# Altium schematic symbol library Schematic_IC_Micro_Controller.SchLib: 7 symbols
Pins are listed as number, name and electrical type; pins without a type are passive.

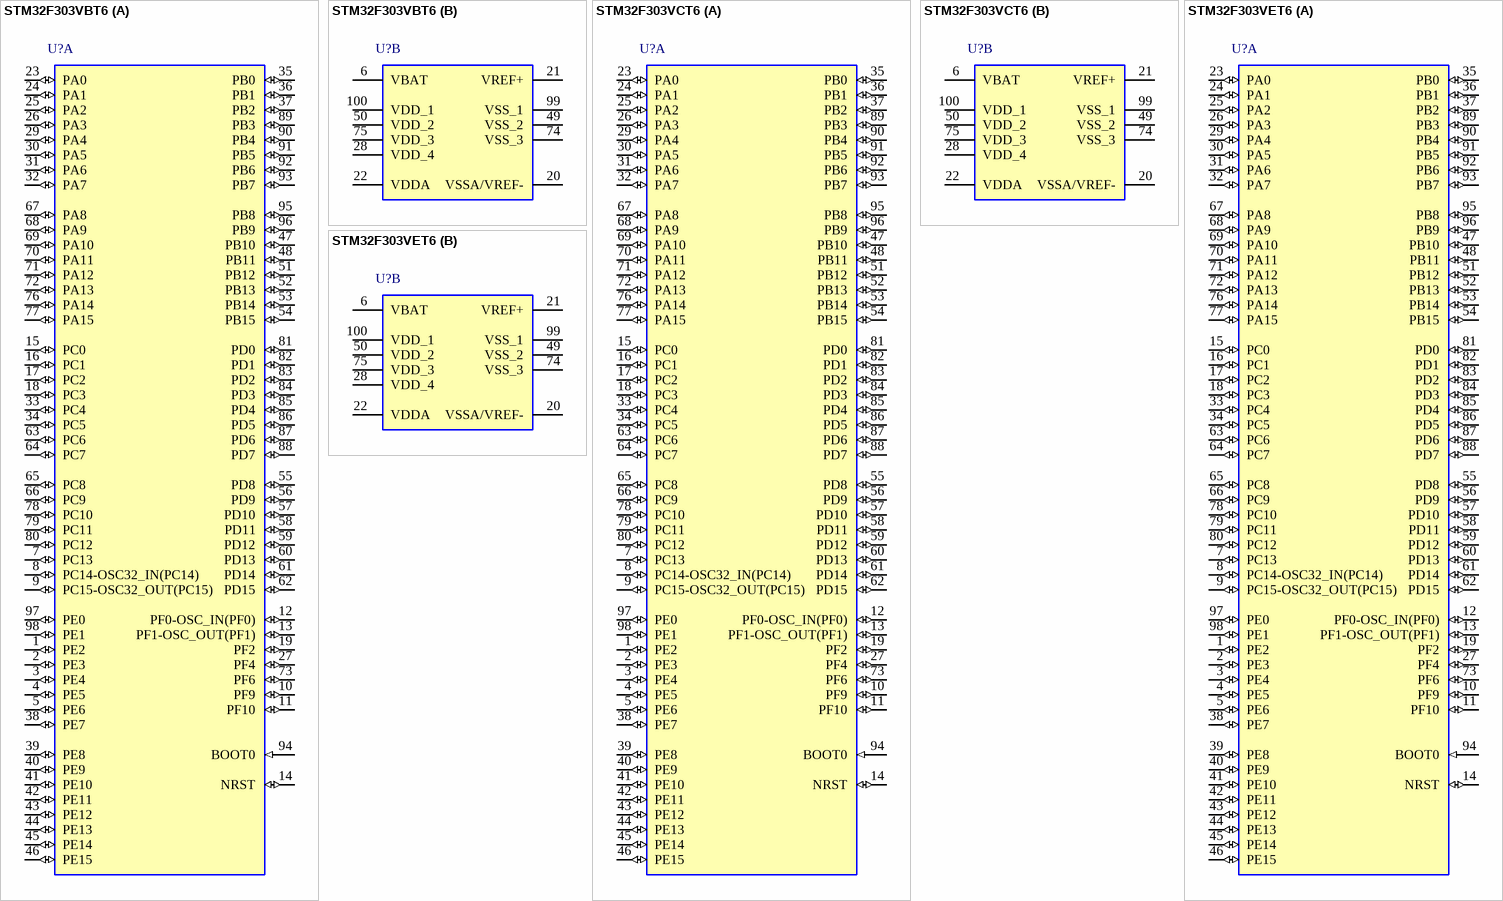
[diagram p0: symbols STM32F303VBT6 to STM32F303VET6]

## STM32F303VBT6
designator U?
ARM Cortex-M4 32-bit MCU, 128 KB Flash, 32 KB Internal RAM, 87 I/Os, 100-pin LQFP, -40 to 85 degC, Tray; PartNumber: STM32F303VBT6; D/A Converter: 2x12-bit (2 Channel); FLASH Size (Prog) (kB): 128; I/Os (High Current): 87; Internal RAM Size (kB): 32; Operating Frequency(F) (Processor speed) (MHz): 72; Supply Voltage(Vcc) min (V): 2; DatasheetVersion: Rev. 6; PackageVersion: Rev. 1, 06/2013; PackageReference: LQFP100; PackageDescription: 100-Pin Low Profile Quad Flat Package, 14 x 14 mm Body, 0.5 mm Pitch; Supplier 1: Digi-Key; Supplier Part Number 1: STM32F303VBT6-ND; Supplier 2: Farnell; Supplier Part Number 2: 2333257; Supplier 3: Newark; Supplier Part Number 3: 99W9875; Supplier 4: Newark; Supplier Part Number 4: 48W6879; Supplier 5: Mouser; Supplier Part Number 5: 511-STM32F303VBT6; Core: ARM Cortex-M4; Packing: Tray; Mounting Technology: Surface Mount; ComponentLink1Description: Manufacturer URL; ComponentLink1URL: http://www.st.com/web/en/home.html; ComponentLink2Description: Datasheet; ComponentLink2URL: http://www.st.com/st-web-ui/static/active/en/resource/technical/document/datasheet/DM00058181.pdf; ComponentLink3Description: Package Specification; ComponentLink3URL: http://www.st.com/st-web-ui/static/active/en/resource/technical/document/data_brief/DM00071938.pdf
footprint QFP50P1600X1600X160-100V (Thin QFP, 100-Leads, Body 14x14mm, Pitch 0.5mm, ST Recommended)
footprint QFP50P1600X1600X160-100N (Thin QFP, 100-Leads, Body 14x14mm, Pitch 0.5mm, IPC Medium Density)
footprint QFP50P1600X1600X160-100M (Thin QFP, 100-Leads, Body 14x14mm, Pitch 0.5mm, IPC Low Density)
footprint QFP50P1600X1600X160-100L (Thin QFP, 100-Leads, Body 14x14mm, Pitch 0.5mm, IPC High Density)
part A pins: 1 PE2 (io) "PE2/TRACECK,TIM3_CH1,TSC_G7_IO1,EVENTOUT", 2 PE3 (io) "PE3/TRACED0,TIM3_CH2,TSC_G7_IO2,EVENTOUT", 3 PE4 (io) "PE4/TRACED1,TIM3_CH3,TSC_G7_IO3,EVENTOUT", 4 PE5 (io) "PE5/TRACED2,TIM3_CH4,TSC_G7_IO4,EVENTOUT", 5 PE6 (io) "PE6/TRACED3,EVENTOUT/WKUP3,RTC_TAMP3", 7 PC13 (io) "PC13/TIM1_CH1N/WKUP2,RTC_TAMP1,RTC_TS,RTC_OUT", 8 PC14-OSC32_IN(PC14) (io) "PC14-OSC32_IN(PC14)/OSC32_IN", 9 PC15-OSC32_OUT(PC15) (io) "PC15-OSC32_OUT(PC15)/OSC32_OUT", 10 PF9 (io) "PF9/TIM15_CH1,SPI2_SCK,EVENTOUT", 11 PF10 (io) "PF10/TIM15_CH2,SPI2_SCK,EVENTOUT", 12 PF0-OSC_IN(PF0) (io) "PF0-OSC_IN(PF0)/TIM1_CH3N,I2C2_SDA/OSC_IN", 13 PF1-OSC_OUT(PF1) (io) "PF1-OSC_OUT(PF1)/I2C2_SCL/OSC_OUT", 14 NRST (io) "Device reset input / internal reset output (active low)", 15 PC0 (io) "PC0/EVENTOUT/ADC12_IN6,COMP7_INM", 16 PC1 (io) "PC1/EVENTOUT/ADC12_IN7,COMP7_INP", 17 PC2 (io) "PC2/COMP7_OUT,EVENTOUT/ADC12_IN8", 18 PC3 (io) "PC3/TIM1_BKIN2,EVENTOUT/ADC12_IN9", 19 PF2 (io) "PF2/EVENTOUT/ADC12_IN10", 23 PA0 (io) "PA0/USART2_CTS,TIM2_CH1_ETR,TIM8_BKIN,TIM8_ETR,TSC_G1_IO1,COMP1_OUT,EVENTOUT/ADC1_IN1,COMP1_INM,RTC_TAMP2,WKUP1,COMP7_INP", 24 PA1 (io) "PA1/USART2_RTS,TIM2_CH2,TSC_G1_IO2,TIM15_CH1N,RTC_REFIN,EVENTOUT/ADC1_IN2,COMP1_INP,OPAMP1_VINP,OPAMP3_VINP", 25 PA2 (io) "PA2/USART2_TX,TIM2_CH3,TIM15_CH1,TSC_G1_IO3,COMP2_OUT,EVENTOUT/ADC1_IN3,COMP2_INM,OPAMP1_VOUT", 26 PA3 (io) "PA3/USART2_RX,TIM2_CH4,TIM15_CH2,TSC_G1_IO4,EVENTOUT/ADC1_IN4,OPAMP1_VINP,COMP2_INP,OPAMP1_VINM", 27 PF4 (io) "PF4/COMP1_OUT,EVENTOUT/ADC1_IN5", 29 PA4 (io) "PA4/SPI1_NSS,SPI3_NSS,I2S3_WS,USART2_CK,TSC_G2_IO1,TIM3_CH2,EVENTOUT/ADC2_IN1,DAC1_OUT1,OPAMP4_VINP,COMP1_INM,COMP2_INM,COMP3_INM,COMP4_INM,COMP5_INM,COMP6_INM,COMP7_INM", 30 PA5 (io) "PA5/SPI1_SCK,TIM2_CH1_ETR,TSC_G2_IO2,EVENTOUT/ADC2_IN2,DAC1_OUT2,OPAMP1_VINP,OPAMP2_VINM,OPAMP3_VINP,COMP1_INM,COMP2_INM,COMP3_INM,COMP4_INM,COMP5_INM,COMP6_INM,COMP7_INM", 31 PA6 (io) "PA6/SPI1_MISO,TIM3_CH1,TIM8_BKIN,TIM1_BKIN,TIM16_CH1,COMP1_OUT,TSC_G2_IO3,EVENTOUT/ADC2_IN3,OPAMP2_VOUT", 32 PA7 (io) "PA7/SPI1_MOSI,TIM3_CH2,TIM17_CH1,TIM1_CH1N,TIM8_CH1N,TSC_G2_IO4,COMP2_OUT,EVENTOUT/ADC2_IN4,COMP2_INP,OPAMP2_VINP,OPAMP1_VINP", 33 PC4 (io) "PC4/USART1_TX,EVENTOUT/ADC2_IN5", 34 PC5 (io) "PC5/USART1_RX,TSC_G3_IO1,EVENTOUT/ADC2_IN11,OPAMP2_VINM,OPAMP1_VINM", 35 PB0 (io) "PB0/TIM3_CH3,TIM1_CH2N,TIM8_CH2N,TSC_G3_IO2,EVENTOUT/ADC3_IN12,COMP4_INP,OPAMP3_VINP,OPAMP2_VINP", 36 PB1 (io) "PB1/TIM3_CH4,TIM1_CH3N,TIM8_CH3N,COMP4_OUT,TSC_G3_IO3,EVENTOUT/ADC3_IN1,OPAMP3_VOUT", 37 PB2 (io) "PB2/TSC_G3_IO4,EVENTOUT/ADC2_IN12,COMP4_INM,OPAMP3_VINM", 38 PE7 (io) "PE7/TIM1_ETR,EVENTOUT/ADC3_IN13,COMP4_INP", 39 PE8 (io) "PE8/TIM1_CH1N,EVENTOUT/COMP4_INM,ADC34_IN6", 40 PE9 (io) "PE9/TIM1_CH1,EVENTOUT/ADC3_IN2", 41 PE10 (io) "PE10/TIM1_CH2N,EVENTOUT/ADC3_IN14", 42 PE11 (io) "PE11/TIM1_CH2,EVENTOUT/ADC3_IN15", 43 PE12 (io) "PE12/TIM1_CH3N,EVENTOUT/ADC3_IN16", 44 PE13 (io) "PE13/TIM1_CH3,EVENTOUT/ADC3_IN3", 45 PE14 (io) "PE14/TIM1_CH4,TIM1_BKIN2,EVENTOUT/ADC4_IN1", 46 PE15 (io) "PE15/USART3_RX,TIM1_BKIN,EVENTOUT/ADC4_IN2", 47 PB10 (io) "PB10/USART3_TX,TIM2_CH3,TSC_SYNC,EVENTOUT/COMP5_INM,OPAMP4_VINM,OPAMP3_VINM", 48 PB11 (io) "PB11/USART3_RX,TIM2_CH4,TSC_G6_IO1,EVENTOUT/COMP6_INP,OPAMP4_VINP", 51 PB12 (io) "PB12/SPI2_NSS,I2S2_WS,I2C2_SMBA,USART3_CK,TIM1_BKIN,TSC_G6_IO2,EVENTOUT/ADC4_IN3,COMP3_INM,OPAMP4_VOUT", 52 PB13 (io) "PB13/SPI2_SCK,I2S2_CK,USART3_CTS,TIM1_CH1N,TSC_G6_IO3,EVENTOUT/ADC3_IN5,COMP5_INP,OPAMP4_VINP,OPAMP3_VINP", 53 PB14 (io) "PB14/SPI2_MISO,I2S2ext_SD,USART3_RTS,TIM1_CH2N,TIM15_CH1,TSC_G6_IO4,EVENTOUT/COMP3_INP,ADC4_IN4,OPAMP2_VINP", 54 PB15 (io) "PB15/SPI2_MOSI,I2S2_SD,TIM1_CH3N,RTC_REFIN,TIM15_CH1N,TIM15_CH2,EVENTOUT/ADC4_IN5,COMP6_INM", 55 PD8 (io) "PD8/USART3_TX,EVENTOUT/ADC4_IN12,OPAMP4_VINM", 56 PD9 (io) "PD9/USART3_RX,EVENTOUT/ADC4_IN13", 57 PD10 (io) "PD10/USART3_CK,EVENTOUT/ADC34_IN7,COMP6_INM", 58 PD11 (io) "PD11/USART3_CTS,EVENTOUT/ADC34_IN8,COMP6_INP,OPAMP4_VINP", 59 PD12 (io) "PD12/USART3_RTS,TIM4_CH1,TSC_G8_IO1,EVENTOUT/ADC34_IN9,COMP5_INP", 60 PD13 (io) "PD13/TIM4_CH2,TSC_G8_IO2,EVENTOUT/ADC34_IN10,COMP5_INM", 61 PD14 (io) "PD14/TIM4_CH3,TSC_G8_IO3,EVENTOUT/COMP3_INP,ADC34_IN11,OPAMP2_VINP", 62 PD15 (io) "PD15/SPI2_NSS,TIM4_CH4,TSC_G8_IO4,EVENTOUT/COMP3_INM", 63 PC6 (io) "PC6/I2S2_MCK,COMP6_OUT,TIM8_CH1,TIM3_CH1,EVENTOUT", 64 PC7 (io) "PC7/I2S3_MCK,TIM8_CH2,TIM3_CH2,COMP5_OUT,EVENTOUT", 65 PC8 (io) "PC8/TIM8_CH3,TIM3_CH3,COMP3_OUT,EVENTOUT", 66 PC9 (io) "PC9/TIM8_CH4,TIM8_BKIN2,TIM3_CH4,I2S_CKIN,EVENTOUT", 67 PA8 (io) "PA8/I2C2_SMBA,I2S2_MCK,USART1_CK,TIM1_CH1,TIM4_ETR,MCO,COMP3_OUT,EVENTOUT", 68 PA9 (io) "PA9/I2C2_SCL,I2S3_MCK,USART1_TX,TIM1_CH2,TIM2_CH3,TIM15_BKIN,TSC_G4_IO1,COMP5_OUT,EVENTOUT", 69 PA10 (io) "PA10/I2C2_SDA,USART1_RX,TIM1_CH3,TIM2_CH4,TIM8_BKIN,TIM17_BKIN,TSC_G4_IO2,COMP6_OUT,EVENTOUT", 70 PA11 (io) "PA11/USART1_CTS,USB_DM,CAN_RX,TIM1_CH1N,TIM1_CH4,TIM1_BKIN2,TIM4_CH1,COMP1_OUT,EVENTOUT", 71 PA12 (io) "PA12/USART1_RTS,USB_DP,CAN_TX,TIM1_CH2N,TIM1_ETR,TIM4_CH2,TIM16_CH1,COMP2_OUT,EVENTOUT", 72 PA13 (io) "PA13/USART3_CTS,TIM4_CH3,TIM16_CH1N,TSC_G4_IO3,IR_OUT,SWDIO-JTMS,EVENTOUT", 73 PF6 (io) "PF6/I2C2_SCL,USART3_RTS,TIM4_CH4,EVENTOUT", 76 PA14 (io) "PA14/I2C1_SDA,USART2_TX,TIM8_CH2,TIM1_BKIN,TSC_G4_IO4,SWCLK-JTCK,EVENTOUT", 77 PA15 (io) "PA15/I2C1_SCL,SPI1_NSS,SPI3_NSS,I2S3_WS,JTDI,USART2_RX,TIM1_BKIN,TIM2_CH1_ETR,TIM8_CH1,EVENTOUT", 78 PC10 (io) "PC10/SPI3_SCK,I2S3_CK,USART3_TX,UART4_TX,TIM8_CH1N,EVENTOUT", 79 PC11 (io) "PC11/SPI3_MISO,I2S3ext_SD,USART3_RX,UART4_RX,TIM8_CH2N,EVENTOUT", 80 PC12 (io) "PC12/SPI3_MOSI,I2S3_SD,USART3_CK,UART5_TX,TIM8_CH3N,EVENTOUT", 81 PD0 (io) "PD0/CAN_RX,EVENTOUT", 82 PD1 (io) "PD1/CAN_TX,TIM8_CH4,TIM8_BKIN2,EVENTOUT", 83 PD2 (io) "PD2/UART5_RX,TIM3_ETR,TIM8_BKIN,EVENTOUT", 84 PD3 (io) "PD3/USART2_CTS,TIM2_CH1_ETR,EVENTOUT", 85 PD4 (io) "PD4/USART2_RTS,TIM2_CH2,EVENTOUT", 86 PD5 (io) "PD5/USART2_TX,EVENTOUT", 87 PD6 (io) "PD6/USART2_RX,TIM2_CH4,EVENTOUT", 88 PD7 (io) "PD7/USART2_CK,TIM2_CH3,EVENTOUT", 89 PB3 (io) "PB3/SPI3_SCK,I2S3_CK,SPI1_SCK,USART2_TX,TIM2_CH2,TIM3_ETR,TIM4_ETR,TIM8_CH1N,TSC_G5_IO1,JTDO-TRACESWO,EVENTOUT", 90 PB4 (io) "PB4/SPI3_MISO,I2S3ext_SD,SPI1_MISO,USART2_RX,TIM3_CH1,TIM16_CH1,TIM17_BKIN,TIM8_CH2N,TSC_G5_IO2,NJTRST,EVENTOUT", 91 PB5 (io) "PB5/SPI3_MOSI,SPI1_MOSI,I2S3_SD,I2C1_SMBA,USART2_CK,TIM16_BKIN,TIM3_CH2,TIM8_CH3N,TIM17_CH1,EVENTOUT", 92 PB6 (io) "PB6/I2C1_SCL,USART1_TX,TIM16_CH1N,TIM4_CH1,TIM8_CH1,TSC_G5_IO3,TIM8_ETR,TIM8_BKIN2,EVENTOUT", 93 PB7 (io) "PB7/I2C1_SDA,USART1_RX,TIM3_CH4,TIM4_CH2,TIM17_CH1N,TIM8_BKIN,TSC_G5_IO4,EVENTOUT", 94 BOOT0 (in) "Boot memory selection", 95 PB8 (io) "PB8/I2C1_SCL,CAN_RX,TIM16_CH1,TIM4_CH3,TIM8_CH2,TIM1_BKIN,TSC_SYNC,COMP1_OUT,EVENTOUT", 96 PB9 (io) "PB9/I2C1_SDA,CAN_TX,TIM17_CH1,TIM4_CH4,TIM8_CH3,IR_OUT,COMP2_OUT,EVENTOUT", 97 PE0 (io) "PE0/USART1_TX,TIM4_ETR,TIM16_CH1,EVENTOUT", 98 PE1 (io) "PE1/USART1_RX,TIM17_CH1,EVENTOUT"
part B pins: 6 VBAT (power) "Backup power supply", 20 VSSA/VREF- (power) "Analog ground/Negative reference voltage", 21 VREF+ (power) "Positive reference voltage", 22 VDDA (power) "Analog power supply", 28 VDD_4 (power) "Digital power supply", 49 VSS_2 (power) "Digital ground", 50 VDD_2 (power) "Digital power supply", 74 VSS_3 (power) "Ground", 75 VDD_3 (power) "Digital power supply", 99 VSS_1 (power) "Ground", 100 VDD_1 (power) "Digital power supply"

## STM32F303VCT6
designator U?
ARM Cortex-M4 32-bit MCU, 256 KB Flash, 40 KB Internal RAM, 87 I/Os, 100-pin LQFP, -40 to 85 degC, Tray; PartNumber: STM32F303VCT6; D/A Converter: 2x12-bit (2 Channel); FLASH Size (Prog) (kB): 256; I/Os (High Current): 87; Internal RAM Size (kB): 40; Operating Frequency(F) (Processor speed) (MHz): 72; Supply Voltage(Vcc) min (V): 2; DatasheetVersion: Rev. 6; PackageVersion: Rev. 1, 06/2013; PackageReference: LQFP100; PackageDescription: 100-Pin Low Profile Quad Flat Package, 14 x 14 mm Body, 0.5 mm Pitch; Supplier 1: Digi-Key; Supplier Part Number 1: 497-13233-ND; Supplier 2: Farnell; Supplier Part Number 2: 2215110; Supplier 3: Newark; Supplier Part Number 3: 43W6527; Supplier 4: Newark; Supplier Part Number 4: 46W2194; Supplier 5: Mouser; Supplier Part Number 5: 511-STM32F303VCT6; Core: ARM Cortex-M4; Packing: Tray; Mounting Technology: Surface Mount; ComponentLink1Description: Manufacturer URL; ComponentLink1URL: http://www.st.com/web/en/home.html; ComponentLink2Description: Datasheet; ComponentLink2URL: http://www.st.com/st-web-ui/static/active/en/resource/technical/document/datasheet/DM00058181.pdf; ComponentLink3Description: Package Specification; ComponentLink3URL: http://www.st.com/st-web-ui/static/active/en/resource/technical/document/data_brief/DM00071938.pdf
footprint QFP50P1600X1600X160-100V (Thin QFP, 100-Leads, Body 14x14mm, Pitch 0.5mm, ST Recommended)
footprint QFP50P1600X1600X160-100N (Thin QFP, 100-Leads, Body 14x14mm, Pitch 0.5mm, IPC Medium Density)
footprint QFP50P1600X1600X160-100M (Thin QFP, 100-Leads, Body 14x14mm, Pitch 0.5mm, IPC Low Density)
footprint QFP50P1600X1600X160-100L (Thin QFP, 100-Leads, Body 14x14mm, Pitch 0.5mm, IPC High Density)
part A pins: 1 PE2 (io) "PE2/TRACECK,TIM3_CH1,TSC_G7_IO1,EVENTOUT", 2 PE3 (io) "PE3/TRACED0,TIM3_CH2,TSC_G7_IO2,EVENTOUT", 3 PE4 (io) "PE4/TRACED1,TIM3_CH3,TSC_G7_IO3,EVENTOUT", 4 PE5 (io) "PE5/TRACED2,TIM3_CH4,TSC_G7_IO4,EVENTOUT", 5 PE6 (io) "PE6/TRACED3,EVENTOUT/WKUP3,RTC_TAMP3", 7 PC13 (io) "PC13/TIM1_CH1N/WKUP2,RTC_TAMP1,RTC_TS,RTC_OUT", 8 PC14-OSC32_IN(PC14) (io) "PC14-OSC32_IN(PC14)/OSC32_IN", 9 PC15-OSC32_OUT(PC15) (io) "PC15-OSC32_OUT(PC15)/OSC32_OUT", 10 PF9 (io) "PF9/TIM15_CH1,SPI2_SCK,EVENTOUT", 11 PF10 (io) "PF10/TIM15_CH2,SPI2_SCK,EVENTOUT", 12 PF0-OSC_IN(PF0) (io) "PF0-OSC_IN(PF0)/TIM1_CH3N,I2C2_SDA/OSC_IN", 13 PF1-OSC_OUT(PF1) (io) "PF1-OSC_OUT(PF1)/I2C2_SCL/OSC_OUT", 14 NRST (io) "Device reset input / internal reset output (active low)", 15 PC0 (io) "PC0/EVENTOUT/ADC12_IN6,COMP7_INM", 16 PC1 (io) "PC1/EVENTOUT/ADC12_IN7,COMP7_INP", 17 PC2 (io) "PC2/COMP7_OUT,EVENTOUT/ADC12_IN8", 18 PC3 (io) "PC3/TIM1_BKIN2,EVENTOUT/ADC12_IN9", 19 PF2 (io) "PF2/EVENTOUT/ADC12_IN10", 23 PA0 (io) "PA0/USART2_CTS,TIM2_CH1_ETR,TIM8_BKIN,TIM8_ETR,TSC_G1_IO1,COMP1_OUT,EVENTOUT/ADC1_IN1,COMP1_INM,RTC_TAMP2,WKUP1,COMP7_INP", 24 PA1 (io) "PA1/USART2_RTS,TIM2_CH2,TSC_G1_IO2,TIM15_CH1N,RTC_REFIN,EVENTOUT/ADC1_IN2,COMP1_INP,OPAMP1_VINP,OPAMP3_VINP", 25 PA2 (io) "PA2/USART2_TX,TIM2_CH3,TIM15_CH1,TSC_G1_IO3,COMP2_OUT,EVENTOUT/ADC1_IN3,COMP2_INM,OPAMP1_VOUT", 26 PA3 (io) "PA3/USART2_RX,TIM2_CH4,TIM15_CH2,TSC_G1_IO4,EVENTOUT/ADC1_IN4,OPAMP1_VINP,COMP2_INP,OPAMP1_VINM", 27 PF4 (io) "PF4/COMP1_OUT,EVENTOUT/ADC1_IN5", 29 PA4 (io) "PA4/SPI1_NSS,SPI3_NSS,I2S3_WS,USART2_CK,TSC_G2_IO1,TIM3_CH2,EVENTOUT/ADC2_IN1,DAC1_OUT1,OPAMP4_VINP,COMP1_INM,COMP2_INM,COMP3_INM,COMP4_INM,COMP5_INM,COMP6_INM,COMP7_INM", 30 PA5 (io) "PA5/SPI1_SCK,TIM2_CH1_ETR,TSC_G2_IO2,EVENTOUT/ADC2_IN2,DAC1_OUT2,OPAMP1_VINP,OPAMP2_VINM,OPAMP3_VINP,COMP1_INM,COMP2_INM,COMP3_INM,COMP4_INM,COMP5_INM,COMP6_INM,COMP7_INM", 31 PA6 (io) "PA6/SPI1_MISO,TIM3_CH1,TIM8_BKIN,TIM1_BKIN,TIM16_CH1,COMP1_OUT,TSC_G2_IO3,EVENTOUT/ADC2_IN3,OPAMP2_VOUT", 32 PA7 (io) "PA7/SPI1_MOSI,TIM3_CH2,TIM17_CH1,TIM1_CH1N,TIM8_CH1N,TSC_G2_IO4,COMP2_OUT,EVENTOUT/ADC2_IN4,COMP2_INP,OPAMP2_VINP,OPAMP1_VINP", 33 PC4 (io) "PC4/USART1_TX,EVENTOUT/ADC2_IN5", 34 PC5 (io) "PC5/USART1_RX,TSC_G3_IO1,EVENTOUT/ADC2_IN11,OPAMP2_VINM,OPAMP1_VINM", 35 PB0 (io) "PB0/TIM3_CH3,TIM1_CH2N,TIM8_CH2N,TSC_G3_IO2,EVENTOUT/ADC3_IN12,COMP4_INP,OPAMP3_VINP,OPAMP2_VINP", 36 PB1 (io) "PB1/TIM3_CH4,TIM1_CH3N,TIM8_CH3N,COMP4_OUT,TSC_G3_IO3,EVENTOUT/ADC3_IN1,OPAMP3_VOUT", 37 PB2 (io) "PB2/TSC_G3_IO4,EVENTOUT/ADC2_IN12,COMP4_INM,OPAMP3_VINM", 38 PE7 (io) "PE7/TIM1_ETR,EVENTOUT/ADC3_IN13,COMP4_INP", 39 PE8 (io) "PE8/TIM1_CH1N,EVENTOUT/COMP4_INM,ADC34_IN6", 40 PE9 (io) "PE9/TIM1_CH1,EVENTOUT/ADC3_IN2", 41 PE10 (io) "PE10/TIM1_CH2N,EVENTOUT/ADC3_IN14", 42 PE11 (io) "PE11/TIM1_CH2,EVENTOUT/ADC3_IN15", 43 PE12 (io) "PE12/TIM1_CH3N,EVENTOUT/ADC3_IN16", 44 PE13 (io) "PE13/TIM1_CH3,EVENTOUT/ADC3_IN3", 45 PE14 (io) "PE14/TIM1_CH4,TIM1_BKIN2,EVENTOUT/ADC4_IN1", 46 PE15 (io) "PE15/USART3_RX,TIM1_BKIN,EVENTOUT/ADC4_IN2", 47 PB10 (io) "PB10/USART3_TX,TIM2_CH3,TSC_SYNC,EVENTOUT/COMP5_INM,OPAMP4_VINM,OPAMP3_VINM", 48 PB11 (io) "PB11/USART3_RX,TIM2_CH4,TSC_G6_IO1,EVENTOUT/COMP6_INP,OPAMP4_VINP", 51 PB12 (io) "PB12/SPI2_NSS,I2S2_WS,I2C2_SMBA,USART3_CK,TIM1_BKIN,TSC_G6_IO2,EVENTOUT/ADC4_IN3,COMP3_INM,OPAMP4_VOUT", 52 PB13 (io) "PB13/SPI2_SCK,I2S2_CK,USART3_CTS,TIM1_CH1N,TSC_G6_IO3,EVENTOUT/ADC3_IN5,COMP5_INP,OPAMP4_VINP,OPAMP3_VINP", 53 PB14 (io) "PB14/SPI2_MISO,I2S2ext_SD,USART3_RTS,TIM1_CH2N,TIM15_CH1,TSC_G6_IO4,EVENTOUT/COMP3_INP,ADC4_IN4,OPAMP2_VINP", 54 PB15 (io) "PB15/SPI2_MOSI,I2S2_SD,TIM1_CH3N,RTC_REFIN,TIM15_CH1N,TIM15_CH2,EVENTOUT/ADC4_IN5,COMP6_INM", 55 PD8 (io) "PD8/USART3_TX,EVENTOUT/ADC4_IN12,OPAMP4_VINM", 56 PD9 (io) "PD9/USART3_RX,EVENTOUT/ADC4_IN13", 57 PD10 (io) "PD10/USART3_CK,EVENTOUT/ADC34_IN7,COMP6_INM", 58 PD11 (io) "PD11/USART3_CTS,EVENTOUT/ADC34_IN8,COMP6_INP,OPAMP4_VINP", 59 PD12 (io) "PD12/USART3_RTS,TIM4_CH1,TSC_G8_IO1,EVENTOUT/ADC34_IN9,COMP5_INP", 60 PD13 (io) "PD13/TIM4_CH2,TSC_G8_IO2,EVENTOUT/ADC34_IN10,COMP5_INM", 61 PD14 (io) "PD14/TIM4_CH3,TSC_G8_IO3,EVENTOUT/COMP3_INP,ADC34_IN11,OPAMP2_VINP", 62 PD15 (io) "PD15/SPI2_NSS,TIM4_CH4,TSC_G8_IO4,EVENTOUT/COMP3_INM", 63 PC6 (io) "PC6/I2S2_MCK,COMP6_OUT,TIM8_CH1,TIM3_CH1,EVENTOUT", 64 PC7 (io) "PC7/I2S3_MCK,TIM8_CH2,TIM3_CH2,COMP5_OUT,EVENTOUT", 65 PC8 (io) "PC8/TIM8_CH3,TIM3_CH3,COMP3_OUT,EVENTOUT", 66 PC9 (io) "PC9/TIM8_CH4,TIM8_BKIN2,TIM3_CH4,I2S_CKIN,EVENTOUT", 67 PA8 (io) "PA8/I2C2_SMBA,I2S2_MCK,USART1_CK,TIM1_CH1,TIM4_ETR,MCO,COMP3_OUT,EVENTOUT", 68 PA9 (io) "PA9/I2C2_SCL,I2S3_MCK,USART1_TX,TIM1_CH2,TIM2_CH3,TIM15_BKIN,TSC_G4_IO1,COMP5_OUT,EVENTOUT", 69 PA10 (io) "PA10/I2C2_SDA,USART1_RX,TIM1_CH3,TIM2_CH4,TIM8_BKIN,TIM17_BKIN,TSC_G4_IO2,COMP6_OUT,EVENTOUT", 70 PA11 (io) "PA11/USART1_CTS,USB_DM,CAN_RX,TIM1_CH1N,TIM1_CH4,TIM1_BKIN2,TIM4_CH1,COMP1_OUT,EVENTOUT", 71 PA12 (io) "PA12/USART1_RTS,USB_DP,CAN_TX,TIM1_CH2N,TIM1_ETR,TIM4_CH2,TIM16_CH1,COMP2_OUT,EVENTOUT", 72 PA13 (io) "PA13/USART3_CTS,TIM4_CH3,TIM16_CH1N,TSC_G4_IO3,IR_OUT,SWDIO-JTMS,EVENTOUT", 73 PF6 (io) "PF6/I2C2_SCL,USART3_RTS,TIM4_CH4,EVENTOUT", 76 PA14 (io) "PA14/I2C1_SDA,USART2_TX,TIM8_CH2,TIM1_BKIN,TSC_G4_IO4,SWCLK-JTCK,EVENTOUT", 77 PA15 (io) "PA15/I2C1_SCL,SPI1_NSS,SPI3_NSS,I2S3_WS,JTDI,USART2_RX,TIM1_BKIN,TIM2_CH1_ETR,TIM8_CH1,EVENTOUT", 78 PC10 (io) "PC10/SPI3_SCK,I2S3_CK,USART3_TX,UART4_TX,TIM8_CH1N,EVENTOUT", 79 PC11 (io) "PC11/SPI3_MISO,I2S3ext_SD,USART3_RX,UART4_RX,TIM8_CH2N,EVENTOUT", 80 PC12 (io) "PC12/SPI3_MOSI,I2S3_SD,USART3_CK,UART5_TX,TIM8_CH3N,EVENTOUT", 81 PD0 (io) "PD0/CAN_RX,EVENTOUT", 82 PD1 (io) "PD1/CAN_TX,TIM8_CH4,TIM8_BKIN2,EVENTOUT", 83 PD2 (io) "PD2/UART5_RX,TIM3_ETR,TIM8_BKIN,EVENTOUT", 84 PD3 (io) "PD3/USART2_CTS,TIM2_CH1_ETR,EVENTOUT", 85 PD4 (io) "PD4/USART2_RTS,TIM2_CH2,EVENTOUT", 86 PD5 (io) "PD5/USART2_TX,EVENTOUT", 87 PD6 (io) "PD6/USART2_RX,TIM2_CH4,EVENTOUT", 88 PD7 (io) "PD7/USART2_CK,TIM2_CH3,EVENTOUT", 89 PB3 (io) "PB3/SPI3_SCK,I2S3_CK,SPI1_SCK,USART2_TX,TIM2_CH2,TIM3_ETR,TIM4_ETR,TIM8_CH1N,TSC_G5_IO1,JTDO-TRACESWO,EVENTOUT", 90 PB4 (io) "PB4/SPI3_MISO,I2S3ext_SD,SPI1_MISO,USART2_RX,TIM3_CH1,TIM16_CH1,TIM17_BKIN,TIM8_CH2N,TSC_G5_IO2,NJTRST,EVENTOUT", 91 PB5 (io) "PB5/SPI3_MOSI,SPI1_MOSI,I2S3_SD,I2C1_SMBA,USART2_CK,TIM16_BKIN,TIM3_CH2,TIM8_CH3N,TIM17_CH1,EVENTOUT", 92 PB6 (io) "PB6/I2C1_SCL,USART1_TX,TIM16_CH1N,TIM4_CH1,TIM8_CH1,TSC_G5_IO3,TIM8_ETR,TIM8_BKIN2,EVENTOUT", 93 PB7 (io) "PB7/I2C1_SDA,USART1_RX,TIM3_CH4,TIM4_CH2,TIM17_CH1N,TIM8_BKIN,TSC_G5_IO4,EVENTOUT", 94 BOOT0 (in) "Boot memory selection", 95 PB8 (io) "PB8/I2C1_SCL,CAN_RX,TIM16_CH1,TIM4_CH3,TIM8_CH2,TIM1_BKIN,TSC_SYNC,COMP1_OUT,EVENTOUT", 96 PB9 (io) "PB9/I2C1_SDA,CAN_TX,TIM17_CH1,TIM4_CH4,TIM8_CH3,IR_OUT,COMP2_OUT,EVENTOUT", 97 PE0 (io) "PE0/USART1_TX,TIM4_ETR,TIM16_CH1,EVENTOUT", 98 PE1 (io) "PE1/USART1_RX,TIM17_CH1,EVENTOUT"
part B pins: 6 VBAT (power) "Backup power supply", 20 VSSA/VREF- (power) "Analog ground/Negative reference voltage", 21 VREF+ (power) "Positive reference voltage", 22 VDDA (power) "Analog power supply", 28 VDD_4 (power) "Digital power supply", 49 VSS_2 (power) "Digital ground", 50 VDD_2 (power) "Digital power supply", 74 VSS_3 (power) "Ground", 75 VDD_3 (power) "Digital power supply", 99 VSS_1 (power) "Ground", 100 VDD_1 (power) "Digital power supply"

## STM32F303VET6
designator U?
ARM Cortex-M4 32-bit MCU, 512 KB Flash, 72 KB Internal RAM, 87 I/Os, 100-pin LQFP, -40 to 85 degC, Tray; PartNumber: STM32F303VCT6; D/A Converter: 2x12-bit (2 Channel); FLASH Size (Prog) (kB): 256; I/Os (High Current): 87; Internal RAM Size (kB): 40; Operating Frequency(F) (Processor speed) (MHz): 72; Supply Voltage(Vcc) min (V): 2; DatasheetVersion: Rev. 6; PackageVersion: Rev. 1, 06/2013; PackageReference: LQFP100; PackageDescription: 100-Pin Low Profile Quad Flat Package, 14 x 14 mm Body, 0.5 mm Pitch; Supplier 1: Digi-Key; Supplier Part Number 1: 497-15164-ND; Core: ARM Cortex-M4; Packing: Tray; Mounting Technology: Surface Mount; ComponentLink1Description: Manufacturer URL; ComponentLink1URL: http://www.st.com/web/en/home.html; ComponentLink2Description: Datasheet; ComponentLink2URL: http://www.st.com/st-web-ui/static/active/en/resource/technical/document/datasheet/DM00058181.pdf; ComponentLink3Description: Package Specification; ComponentLink3URL: http://www.st.com/st-web-ui/static/active/en/resource/technical/document/data_brief/DM00071938.pdf
footprint QFP50P1600X1600X160-100V (Thin QFP, 100-Leads, Body 14x14mm, Pitch 0.5mm, ST Recommended)
footprint QFP50P1600X1600X160-100N (Thin QFP, 100-Leads, Body 14x14mm, Pitch 0.5mm, IPC Medium Density)
footprint QFP50P1600X1600X160-100M (Thin QFP, 100-Leads, Body 14x14mm, Pitch 0.5mm, IPC Low Density)
footprint QFP50P1600X1600X160-100L (Thin QFP, 100-Leads, Body 14x14mm, Pitch 0.5mm, IPC High Density)
part A pins: 1 PE2 (io) "PE2/TRACECK,TIM3_CH1,TSC_G7_IO1,EVENTOUT", 2 PE3 (io) "PE3/TRACED0,TIM3_CH2,TSC_G7_IO2,EVENTOUT", 3 PE4 (io) "PE4/TRACED1,TIM3_CH3,TSC_G7_IO3,EVENTOUT", 4 PE5 (io) "PE5/TRACED2,TIM3_CH4,TSC_G7_IO4,EVENTOUT", 5 PE6 (io) "PE6/TRACED3,EVENTOUT/WKUP3,RTC_TAMP3", 7 PC13 (io) "PC13/TIM1_CH1N/WKUP2,RTC_TAMP1,RTC_TS,RTC_OUT", 8 PC14-OSC32_IN(PC14) (io) "PC14-OSC32_IN(PC14)/OSC32_IN", 9 PC15-OSC32_OUT(PC15) (io) "PC15-OSC32_OUT(PC15)/OSC32_OUT", 10 PF9 (io) "PF9/TIM15_CH1,SPI2_SCK,EVENTOUT", 11 PF10 (io) "PF10/TIM15_CH2,SPI2_SCK,EVENTOUT", 12 PF0-OSC_IN(PF0) (io) "PF0-OSC_IN(PF0)/TIM1_CH3N,I2C2_SDA/OSC_IN", 13 PF1-OSC_OUT(PF1) (io) "PF1-OSC_OUT(PF1)/I2C2_SCL/OSC_OUT", 14 NRST (io) "Device reset input / internal reset output (active low)", 15 PC0 (io) "PC0/EVENTOUT/ADC12_IN6,COMP7_INM", 16 PC1 (io) "PC1/EVENTOUT/ADC12_IN7,COMP7_INP", 17 PC2 (io) "PC2/COMP7_OUT,EVENTOUT/ADC12_IN8", 18 PC3 (io) "PC3/TIM1_BKIN2,EVENTOUT/ADC12_IN9", 19 PF2 (io) "PF2/EVENTOUT/ADC12_IN10", 23 PA0 (io) "PA0/USART2_CTS,TIM2_CH1_ETR,TIM8_BKIN,TIM8_ETR,TSC_G1_IO1,COMP1_OUT,EVENTOUT/ADC1_IN1,COMP1_INM,RTC_TAMP2,WKUP1,COMP7_INP", 24 PA1 (io) "PA1/USART2_RTS,TIM2_CH2,TSC_G1_IO2,TIM15_CH1N,RTC_REFIN,EVENTOUT/ADC1_IN2,COMP1_INP,OPAMP1_VINP,OPAMP3_VINP", 25 PA2 (io) "PA2/USART2_TX,TIM2_CH3,TIM15_CH1,TSC_G1_IO3,COMP2_OUT,EVENTOUT/ADC1_IN3,COMP2_INM,OPAMP1_VOUT", 26 PA3 (io) "PA3/USART2_RX,TIM2_CH4,TIM15_CH2,TSC_G1_IO4,EVENTOUT/ADC1_IN4,OPAMP1_VINP,COMP2_INP,OPAMP1_VINM", 27 PF4 (io) "PF4/COMP1_OUT,EVENTOUT/ADC1_IN5", 29 PA4 (io) "PA4/SPI1_NSS,SPI3_NSS,I2S3_WS,USART2_CK,TSC_G2_IO1,TIM3_CH2,EVENTOUT/ADC2_IN1,DAC1_OUT1,OPAMP4_VINP,COMP1_INM,COMP2_INM,COMP3_INM,COMP4_INM,COMP5_INM,COMP6_INM,COMP7_INM", 30 PA5 (io) "PA5/SPI1_SCK,TIM2_CH1_ETR,TSC_G2_IO2,EVENTOUT/ADC2_IN2,DAC1_OUT2,OPAMP1_VINP,OPAMP2_VINM,OPAMP3_VINP,COMP1_INM,COMP2_INM,COMP3_INM,COMP4_INM,COMP5_INM,COMP6_INM,COMP7_INM", 31 PA6 (io) "PA6/SPI1_MISO,TIM3_CH1,TIM8_BKIN,TIM1_BKIN,TIM16_CH1,COMP1_OUT,TSC_G2_IO3,EVENTOUT/ADC2_IN3,OPAMP2_VOUT", 32 PA7 (io) "PA7/SPI1_MOSI,TIM3_CH2,TIM17_CH1,TIM1_CH1N,TIM8_CH1N,TSC_G2_IO4,COMP2_OUT,EVENTOUT/ADC2_IN4,COMP2_INP,OPAMP2_VINP,OPAMP1_VINP", 33 PC4 (io) "PC4/USART1_TX,EVENTOUT/ADC2_IN5", 34 PC5 (io) "PC5/USART1_RX,TSC_G3_IO1,EVENTOUT/ADC2_IN11,OPAMP2_VINM,OPAMP1_VINM", 35 PB0 (io) "PB0/TIM3_CH3,TIM1_CH2N,TIM8_CH2N,TSC_G3_IO2,EVENTOUT/ADC3_IN12,COMP4_INP,OPAMP3_VINP,OPAMP2_VINP", 36 PB1 (io) "PB1/TIM3_CH4,TIM1_CH3N,TIM8_CH3N,COMP4_OUT,TSC_G3_IO3,EVENTOUT/ADC3_IN1,OPAMP3_VOUT", 37 PB2 (io) "PB2/TSC_G3_IO4,EVENTOUT/ADC2_IN12,COMP4_INM,OPAMP3_VINM", 38 PE7 (io) "PE7/TIM1_ETR,EVENTOUT/ADC3_IN13,COMP4_INP", 39 PE8 (io) "PE8/TIM1_CH1N,EVENTOUT/COMP4_INM,ADC34_IN6", 40 PE9 (io) "PE9/TIM1_CH1,EVENTOUT/ADC3_IN2", 41 PE10 (io) "PE10/TIM1_CH2N,EVENTOUT/ADC3_IN14", 42 PE11 (io) "PE11/TIM1_CH2,EVENTOUT/ADC3_IN15", 43 PE12 (io) "PE12/TIM1_CH3N,EVENTOUT/ADC3_IN16", 44 PE13 (io) "PE13/TIM1_CH3,EVENTOUT/ADC3_IN3", 45 PE14 (io) "PE14/TIM1_CH4,TIM1_BKIN2,EVENTOUT/ADC4_IN1", 46 PE15 (io) "PE15/USART3_RX,TIM1_BKIN,EVENTOUT/ADC4_IN2", 47 PB10 (io) "PB10/USART3_TX,TIM2_CH3,TSC_SYNC,EVENTOUT/COMP5_INM,OPAMP4_VINM,OPAMP3_VINM", 48 PB11 (io) "PB11/USART3_RX,TIM2_CH4,TSC_G6_IO1,EVENTOUT/COMP6_INP,OPAMP4_VINP", 51 PB12 (io) "PB12/SPI2_NSS,I2S2_WS,I2C2_SMBA,USART3_CK,TIM1_BKIN,TSC_G6_IO2,EVENTOUT/ADC4_IN3,COMP3_INM,OPAMP4_VOUT", 52 PB13 (io) "PB13/SPI2_SCK,I2S2_CK,USART3_CTS,TIM1_CH1N,TSC_G6_IO3,EVENTOUT/ADC3_IN5,COMP5_INP,OPAMP4_VINP,OPAMP3_VINP", 53 PB14 (io) "PB14/SPI2_MISO,I2S2ext_SD,USART3_RTS,TIM1_CH2N,TIM15_CH1,TSC_G6_IO4,EVENTOUT/COMP3_INP,ADC4_IN4,OPAMP2_VINP", 54 PB15 (io) "PB15/SPI2_MOSI,I2S2_SD,TIM1_CH3N,RTC_REFIN,TIM15_CH1N,TIM15_CH2,EVENTOUT/ADC4_IN5,COMP6_INM", 55 PD8 (io) "PD8/USART3_TX,EVENTOUT/ADC4_IN12,OPAMP4_VINM", 56 PD9 (io) "PD9/USART3_RX,EVENTOUT/ADC4_IN13", 57 PD10 (io) "PD10/USART3_CK,EVENTOUT/ADC34_IN7,COMP6_INM", 58 PD11 (io) "PD11/USART3_CTS,EVENTOUT/ADC34_IN8,COMP6_INP,OPAMP4_VINP", 59 PD12 (io) "PD12/USART3_RTS,TIM4_CH1,TSC_G8_IO1,EVENTOUT/ADC34_IN9,COMP5_INP", 60 PD13 (io) "PD13/TIM4_CH2,TSC_G8_IO2,EVENTOUT/ADC34_IN10,COMP5_INM", 61 PD14 (io) "PD14/TIM4_CH3,TSC_G8_IO3,EVENTOUT/COMP3_INP,ADC34_IN11,OPAMP2_VINP", 62 PD15 (io) "PD15/SPI2_NSS,TIM4_CH4,TSC_G8_IO4,EVENTOUT/COMP3_INM", 63 PC6 (io) "PC6/I2S2_MCK,COMP6_OUT,TIM8_CH1,TIM3_CH1,EVENTOUT", 64 PC7 (io) "PC7/I2S3_MCK,TIM8_CH2,TIM3_CH2,COMP5_OUT,EVENTOUT", 65 PC8 (io) "PC8/TIM8_CH3,TIM3_CH3,COMP3_OUT,EVENTOUT", 66 PC9 (io) "PC9/TIM8_CH4,TIM8_BKIN2,TIM3_CH4,I2S_CKIN,EVENTOUT", 67 PA8 (io) "PA8/I2C2_SMBA,I2S2_MCK,USART1_CK,TIM1_CH1,TIM4_ETR,MCO,COMP3_OUT,EVENTOUT", 68 PA9 (io) "PA9/I2C2_SCL,I2S3_MCK,USART1_TX,TIM1_CH2,TIM2_CH3,TIM15_BKIN,TSC_G4_IO1,COMP5_OUT,EVENTOUT", 69 PA10 (io) "PA10/I2C2_SDA,USART1_RX,TIM1_CH3,TIM2_CH4,TIM8_BKIN,TIM17_BKIN,TSC_G4_IO2,COMP6_OUT,EVENTOUT", 70 PA11 (io) "PA11/USART1_CTS,USB_DM,CAN_RX,TIM1_CH1N,TIM1_CH4,TIM1_BKIN2,TIM4_CH1,COMP1_OUT,EVENTOUT", 71 PA12 (io) "PA12/USART1_RTS,USB_DP,CAN_TX,TIM1_CH2N,TIM1_ETR,TIM4_CH2,TIM16_CH1,COMP2_OUT,EVENTOUT", 72 PA13 (io) "PA13/USART3_CTS,TIM4_CH3,TIM16_CH1N,TSC_G4_IO3,IR_OUT,SWDIO-JTMS,EVENTOUT", 73 PF6 (io) "PF6/I2C2_SCL,USART3_RTS,TIM4_CH4,EVENTOUT", 76 PA14 (io) "PA14/I2C1_SDA,USART2_TX,TIM8_CH2,TIM1_BKIN,TSC_G4_IO4,SWCLK-JTCK,EVENTOUT", 77 PA15 (io) "PA15/I2C1_SCL,SPI1_NSS,SPI3_NSS,I2S3_WS,JTDI,USART2_RX,TIM1_BKIN,TIM2_CH1_ETR,TIM8_CH1,EVENTOUT", 78 PC10 (io) "PC10/SPI3_SCK,I2S3_CK,USART3_TX,UART4_TX,TIM8_CH1N,EVENTOUT", 79 PC11 (io) "PC11/SPI3_MISO,I2S3ext_SD,USART3_RX,UART4_RX,TIM8_CH2N,EVENTOUT", 80 PC12 (io) "PC12/SPI3_MOSI,I2S3_SD,USART3_CK,UART5_TX,TIM8_CH3N,EVENTOUT", 81 PD0 (io) "PD0/CAN_RX,EVENTOUT", 82 PD1 (io) "PD1/CAN_TX,TIM8_CH4,TIM8_BKIN2,EVENTOUT", 83 PD2 (io) "PD2/UART5_RX,TIM3_ETR,TIM8_BKIN,EVENTOUT", 84 PD3 (io) "PD3/USART2_CTS,TIM2_CH1_ETR,EVENTOUT", 85 PD4 (io) "PD4/USART2_RTS,TIM2_CH2,EVENTOUT", 86 PD5 (io) "PD5/USART2_TX,EVENTOUT", 87 PD6 (io) "PD6/USART2_RX,TIM2_CH4,EVENTOUT", 88 PD7 (io) "PD7/USART2_CK,TIM2_CH3,EVENTOUT", 89 PB3 (io) "PB3/SPI3_SCK,I2S3_CK,SPI1_SCK,USART2_TX,TIM2_CH2,TIM3_ETR,TIM4_ETR,TIM8_CH1N,TSC_G5_IO1,JTDO-TRACESWO,EVENTOUT", 90 PB4 (io) "PB4/SPI3_MISO,I2S3ext_SD,SPI1_MISO,USART2_RX,TIM3_CH1,TIM16_CH1,TIM17_BKIN,TIM8_CH2N,TSC_G5_IO2,NJTRST,EVENTOUT", 91 PB5 (io) "PB5/SPI3_MOSI,SPI1_MOSI,I2S3_SD,I2C1_SMBA,USART2_CK,TIM16_BKIN,TIM3_CH2,TIM8_CH3N,TIM17_CH1,EVENTOUT", 92 PB6 (io) "PB6/I2C1_SCL,USART1_TX,TIM16_CH1N,TIM4_CH1,TIM8_CH1,TSC_G5_IO3,TIM8_ETR,TIM8_BKIN2,EVENTOUT", 93 PB7 (io) "PB7/I2C1_SDA,USART1_RX,TIM3_CH4,TIM4_CH2,TIM17_CH1N,TIM8_BKIN,TSC_G5_IO4,EVENTOUT", 94 BOOT0 (in) "Boot memory selection", 95 PB8 (io) "PB8/I2C1_SCL,CAN_RX,TIM16_CH1,TIM4_CH3,TIM8_CH2,TIM1_BKIN,TSC_SYNC,COMP1_OUT,EVENTOUT", 96 PB9 (io) "PB9/I2C1_SDA,CAN_TX,TIM17_CH1,TIM4_CH4,TIM8_CH3,IR_OUT,COMP2_OUT,EVENTOUT", 97 PE0 (io) "PE0/USART1_TX,TIM4_ETR,TIM16_CH1,EVENTOUT", 98 PE1 (io) "PE1/USART1_RX,TIM17_CH1,EVENTOUT"
part B pins: 6 VBAT (power) "Backup power supply", 20 VSSA/VREF- (power) "Analog ground/Negative reference voltage", 21 VREF+ (power) "Positive reference voltage", 22 VDDA (power) "Analog power supply", 28 VDD_4 (power) "Digital power supply", 49 VSS_2 (power) "Digital ground", 50 VDD_2 (power) "Digital power supply", 74 VSS_3 (power) "Ground", 75 VDD_3 (power) "Digital power supply", 99 VSS_1 (power) "Ground", 100 VDD_1 (power) "Digital power supply"

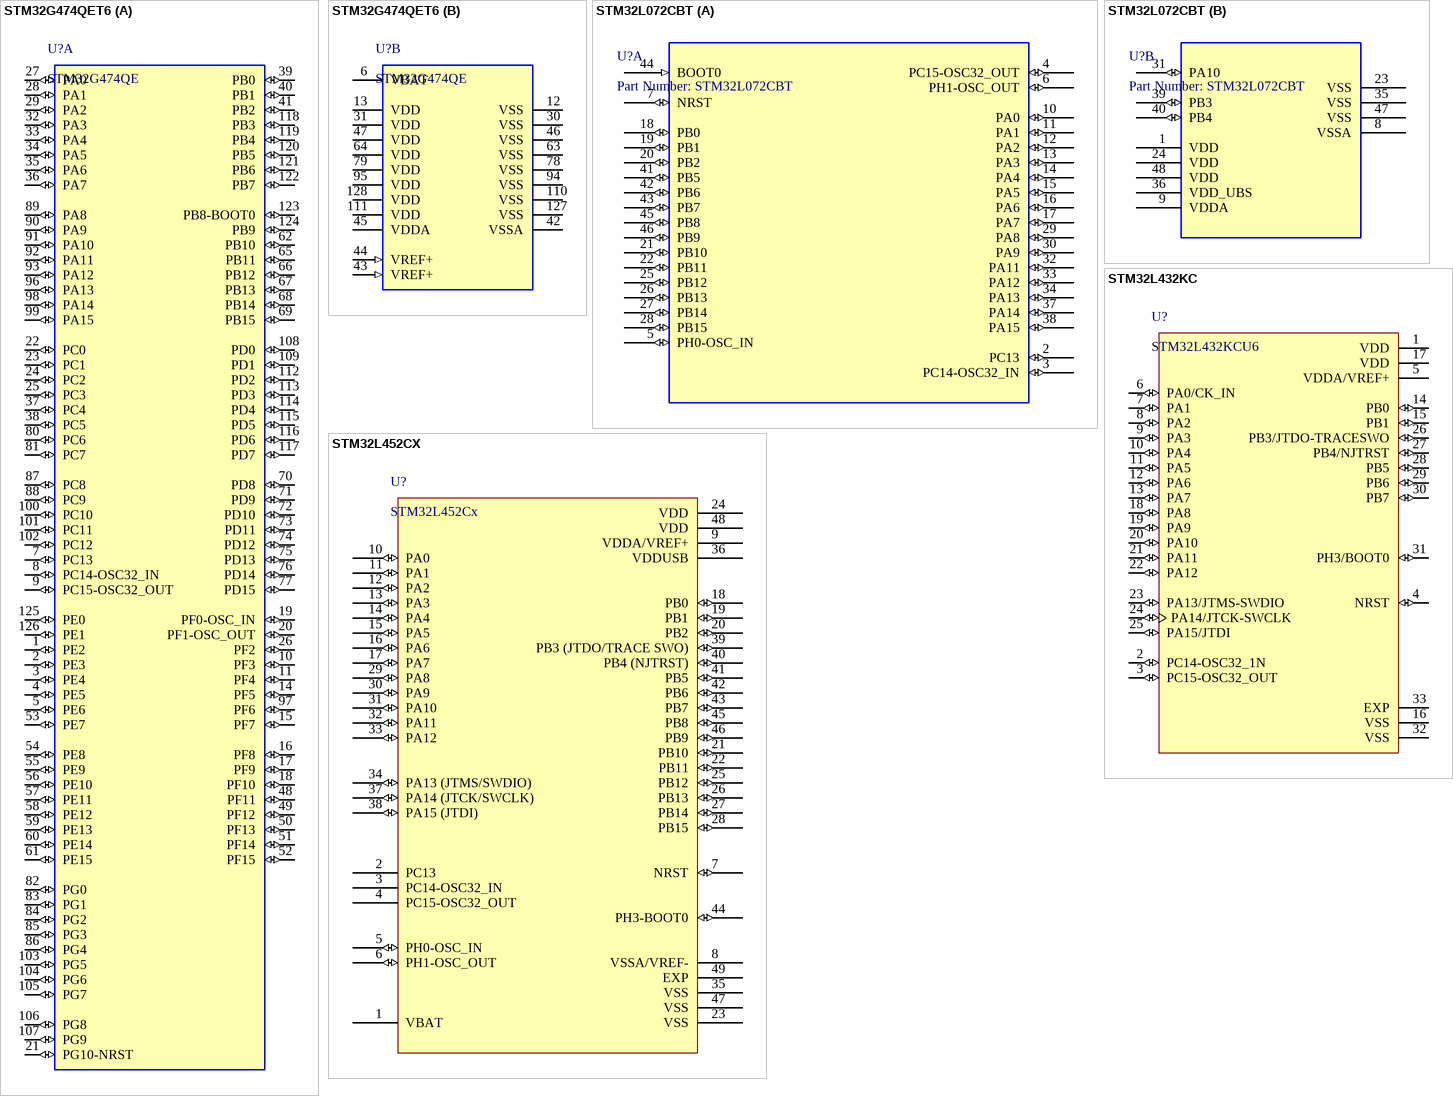
[diagram p1: symbols STM32G474QET6 to STM32L452CX]

## STM32G474QET6
designator U?, comment STM32G474QE
Arm Cortex-M4 32-bit MCU+FPU, up to 512 KB Flash, 170 MHz / 213 DMIPS, 128 KB SRAM, rich analog, math accelerator, 184 ps 12 channels Hi-res timer; Manufacturer: STMicroelectronics; Manufacturer Part Number: STM32G474QET6; RoHS: No
footprint QFP40P1600X1600X160-128L (TSQFP, 128-Leads, Body 14.00x14.00mm, Pitch 0.40mm, IPC High Density)
part A pins: 1 PE2 (io), 2 PE3 (io), 3 PE4 (io), 4 PE5 (io), 5 PE6 (io), 7 PC13 (io), 8 PC14-OSC32_IN (io), 9 PC15-OSC32_OUT (io), 10 PF3 (io), 11 PF4 (io), 14 PF5 (io), 15 PF7 (io), 16 PF8 (io), 17 PF9 (io), 18 PF10 (io), 19 PF0-OSC_IN (io), 20 PF1-OSC_OUT (io), 21 PG10-NRST (io), 22 PC0 (io), 23 PC1 (io), 24 PC2 (io), 25 PC3 (io), 26 PF2 (io), 27 PA0 (io), 28 PA1 (io), 29 PA2 (io), 32 PA3 (io), 33 PA4 (io), 34 PA5 (io), 35 PA6 (io), 36 PA7 (io), 37 PC4 (io), 38 PC5 (io), 39 PB0 (io), 40 PB1 (io), 41 PB2 (io), 48 PF11 (io), 49 PF12 (io), 50 PF13 (io), 51 PF14 (io), 52 PF15 (io), 53 PE7 (io), 54 PE8 (io), 55 PE9 (io), 56 PE10 (io), 57 PE11 (io), 58 PE12 (io), 59 PE13 (io), 60 PE14 (io), 61 PE15 (io), 62 PB10 (io), 65 PB11 (io), 66 PB12 (io), 67 PB13 (io), 68 PB14 (io), 69 PB15 (io), 70 PD8 (io), 71 PD9 (io), 72 PD10 (io), 73 PD11 (io), 74 PD12 (io), 75 PD13 (io), 76 PD14 (io), 77 PD15 (io), 80 PC6 (io), 81 PC7 (io), 82 PG0 (io), 83 PG1 (io), 84 PG2 (io), 85 PG3 (io), 86 PG4 (io), 87 PC8 (io), 88 PC9 (io), 89 PA8 (io), 90 PA9 (io), 91 PA10 (io), 92 PA11 (io), 93 PA12 (io), 96 PA13 (io), 97 PF6 (io), 98 PA14 (io), 99 PA15 (io), 100 PC10 (io), 101 PC11 (io), 102 PC12 (io), 103 PG5 (io), 104 PG6 (io), 105 PG7 (io), 106 PG8 (io), 107 PG9 (io), 108 PD0 (io), 109 PD1 (io), 112 PD2 (io), 113 PD3 (io), 114 PD4 (io), 115 PD5 (io), 116 PD6 (io), 117 PD7 (io), 118 PB3 (io), 119 PB4 (io), 120 PB5 (io), 121 PB6 (io), 122 PB7 (io), 123 PB8-BOOT0 (io), 124 PB9 (io), 125 PE0 (io), 126 PE1 (io)
part B pins: 6 VBAT (power), 12 VSS (power), 13 VDD (power), 30 VSS (power), 31 VDD (power), 42 VSSA (power), 43 VREF+ (in), 44 VREF+ (in), 45 VDDA (power), 46 VSS (power), 47 VDD (power), 63 VSS (power), 64 VDD (power), 78 VSS (power), 79 VDD (power), 94 VSS (power), 95 VDD (power), 110 VSS (power), 111 VDD (power), 127 VSS (power), 128 VDD (power)

## STM32L072CBT
designator U?, comment Part Number: STM32L072CBT
No Description Available; Vendor: STMicroelectronics; Copyright: Copyright (C) 2016 Accelerated Designs. All rights reserved; Manufacturer_Part_Number: STM32L072CBT; RefDes: RefDes; Type: DEV; Value: Value
footprint TSQFP50P900X900X160-48L (TSQFP, 48-Leads, Body 7.00x7.00mm, Pitch 0.50mm, IPC High Density)
part A pins: 2 PC13 (io), 3 PC14-OSC32_IN (io), 4 PC15-OSC32_OUT (io), 5 PH0-OSC_IN (io), 6 PH1-OSC_OUT (io), 7 NRST (io), 10 PA0 (io), 11 PA1 (io), 12 PA2 (io), 13 PA3 (io), 14 PA4 (io), 15 PA5 (io), 16 PA6 (io), 17 PA7 (io), 18 PB0 (io), 19 PB1 (io), 20 PB2 (io), 21 PB10 (io), 22 PB11 (io), 25 PB12 (io), 26 PB13 (io), 27 PB14 (io), 28 PB15 (io), 29 PA8 (io), 30 PA9 (io), 32 PA11 (io), 33 PA12 (io), 34 PA13 (io), 37 PA14 (io), 38 PA15 (io), 41 PB5 (io), 42 PB6 (io), 43 PB7 (io), 44 BOOT0 (in), 45 PB8 (io), 46 PB9 (io)
part B pins: 1 VDD (power), 8 VSSA (power), 9 VDDA (power), 23 VSS (power), 24 VDD (power), 31 PA10 (io), 35 VSS (power), 36 VDD_UBS (power), 39 PB3 (io), 40 PB4 (io), 47 VSS (power), 48 VDD (power)

## STM32L432KC
designator U?, comment STM32L432KCU6
MCU 32-bit STM32L ARM Cortex M4 RISC 256KB Flash 2.5V/3.3V 32-Pin UFQFPN EP Tray
pins: 1 VDD (power), 2 PC14-OSC32_1N (io), 3 PC15-OSC32_OUT (io), 4 NRST (io), 5 VDDA/VREF+ (power), 6 PA0/CK_IN (io), 7 PA1 (io), 8 PA2 (io), 9 PA3 (io), 10 PA4 (io), 11 PA5 (io), 12 PA6 (io), 13 PA7 (io), 14 PB0 (io), 15 PB1 (io), 16 VSS (power), 17 VDD (power), 18 PA8 (io), 19 PA9 (io), 20 PA10 (io), 21 PA11 (io), 22 PA12 (io), 23 PA13/JTMS-SWDIO (io), 24 PA14/JTCK-SWCLK (io), 25 PA15/JTDI (io), 26 PB3/JTDO-TRACESWO (io), 27 PB4/NJTRST (io), 28 PB5 (io), 29 PB6 (io), 30 PB7 (io), 31 PH3/BOOT0 (io), 32 VSS (power), 33 EXP (power)

## STM32L452CX
designator U?, comment STM32L452Cx
ARM® Cortex®-M4 STM32L4 Microcontroller IC 32-Bit 80MHz 512KB (512K x 8) FLASH 48-UFQFPN (7x7)
pins: 1 VBAT, 2 PC13, 3 PC14-OSC32_IN, 4 PC15-OSC32_OUT, 5 PH0-OSC_IN (io), 6 PH1-OSC_OUT (io), 7 NRST (io), 8 VSSA/VREF-, 9 VDDA/VREF+, 10 PA0 (io), 11 PA1 (io), 12 PA2 (io), 13 PA3 (io), 14 PA4 (io), 15 PA5 (io), 16 PA6 (io), 17 PA7 (io), 18 PB0 (io), 19 PB1 (io), 20 PB2 (io), 21 PB10 (io), 22 PB11 (io), 23 VSS, 24 VDD, 25 PB12 (io), 26 PB13 (io), 27 PB14 (io), 28 PB15 (io), 29 PA8 (io), 30 PA9 (io), 31 PA10 (io), 32 PA11 (io), 33 PA12 (io), 34 PA13 (JTMS/SWDIO) (io), 35 VSS, 36 VDDUSB, 37 PA14 (JTCK/SWCLK) (io), 38 PA15 (JTDI) (io), 39 PB3 (JTDO/TRACE SWO) (io), 40 PB4 (NJTRST) (io), 41 PB5 (io), 42 PB6 (io), 43 PB7 (io), 44 PH3-BOOT0 (io), 45 PB8 (io), 46 PB9 (io), 47 VSS, 48 VDD, 49 EXP (power)